# Altium integrated library ST Automotive Tachometer Circuit.IntLib: 1 symbol
Pins are listed as number, name and electrical type; pins without a type are passive.

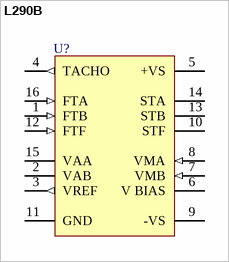
[diagram p0: symbol L290B]

## L290B
designator U?
Tachometer Converter; Published: 24-Aug-2001; LatestRevisionDate: 17-Jul-2002; LatestRevisionNote: Re-released for DXP Platform.; DatasheetDocument: Mar-1993; PackageDocument: Apr-1996; PackageReference: DIP16; Publisher: Altium Limited
footprint DIP16 (DIP; 16 Leads; Row Spacing 7.62 mm; Pitch 2.54 mm)
pins: 1 FTB (in), 2 VAB, 3 VREF (out), 4 TACHO (out), 5 +VS (power), 6 V BIAS, 7 VMB (in), 8 VMA (in), 9 -VS (power), 10 STF (oc), 11 GND (power), 12 FTF (in), 13 STB (oc), 14 STA (oc), 15 VAA, 16 FTA (in)